# Altium footprint library WLCSP$36N0.40P6X6_2.7X2.6X0.6-36_36.PcbLib: 1 footprints
Each footprint in its own frame and in the unit in brackets; x right, y up, seen from the top. Pads: shape width x height; smd on the part's side, far side on the other; paste and mask are expansions set on the pad; w line width, h text height; cw(c..) or ccw(c..) is an arc to the next point about the centre after c.
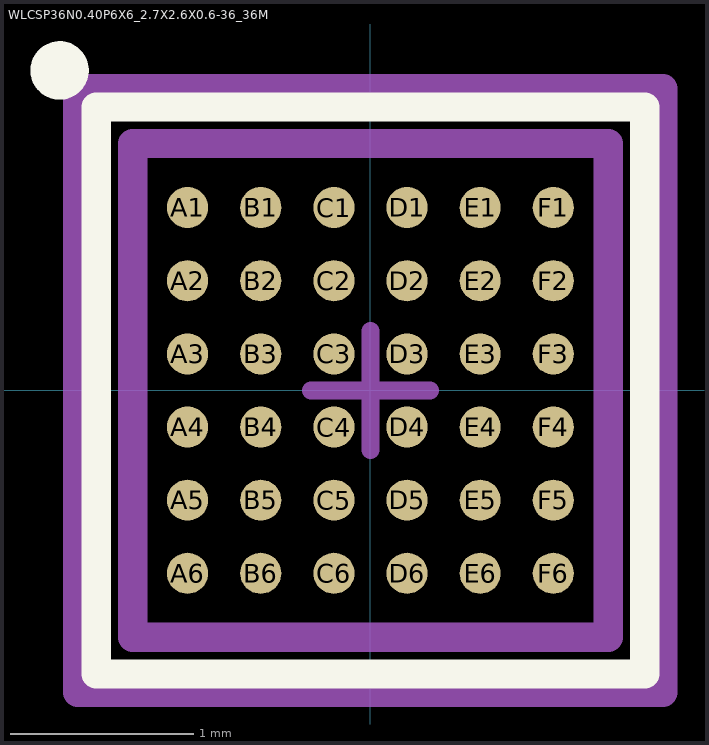
[diagram p0: the footprint, top view; thin cyan lines are the x and y axes]

## WLCSP36N0.40P6X6_2.7X2.6X0.6-36_36M [mm] "WLCSP 36 2.6x2.7x0.6 P 0.4 mm"
height 0.6
pads (36):
  round 0.225 smd: A1(-1,1) A2(-1,0.6) A3(-1,0.2) A4(-1,-0.2) A5(-1,-0.6) A6(-1,-1) B1(-0.6,1) B2(-0.6,0.6) B3(-0.6,0.2) B4(-0.6,-0.2) B5(-0.6,-0.6) B6(-0.6,-1) C1(-0.2,1) C2(-0.2,0.6) C3(-0.2,0.2) C4(-0.2,-0.2) C5(-0.2,-0.6) C6(-0.2,-1) D1(0.2,1) D2(0.2,0.6) D3(0.2,0.2) D4(0.2,-0.2) D5(0.2,-0.6) D6(0.2,-1) E1(0.6,1) E2(0.6,0.6) E3(0.6,0.2) E4(0.6,-0.2) E5(0.6,-0.6) E6(0.6,-1) F1(1,1) F2(1,0.6) F3(1,0.2) F4(1,-0.2) F5(1,-0.6) F6(1,-1)
Top Overlay:
  circle w0.16: c-1.7,1.75 r0.08
  lines w0.16: -1.5,-1.55 1.5,-1.55 1.5,1.55 -1.5,1.55 -1.5,-1.55
Top Component Center:
  lines w0.1: -0.325,0 0.325,0 ; 0,-0.325 0,0.325
Top Courtyard:
  lines w0.16: -1.6,-1.65 1.6,-1.65 1.6,1.65 -1.6,1.65 -1.6,-1.65
Top Assembly:
  lines w0.16: -1.3,-1.35 1.3,-1.35 1.3,1.35 -1.3,1.35 -1.3,-1.35
3D body "WLCSP36N0.40P6X6_2.7X2.6X0.6-36_36M.STEP": height 0.6, standoff 0, extent -1.3,-1.35 1.3,1.35